# Altium schematic symbol library Amplifier_Operational.SchLib: 354 symbols (part 2 of 4)
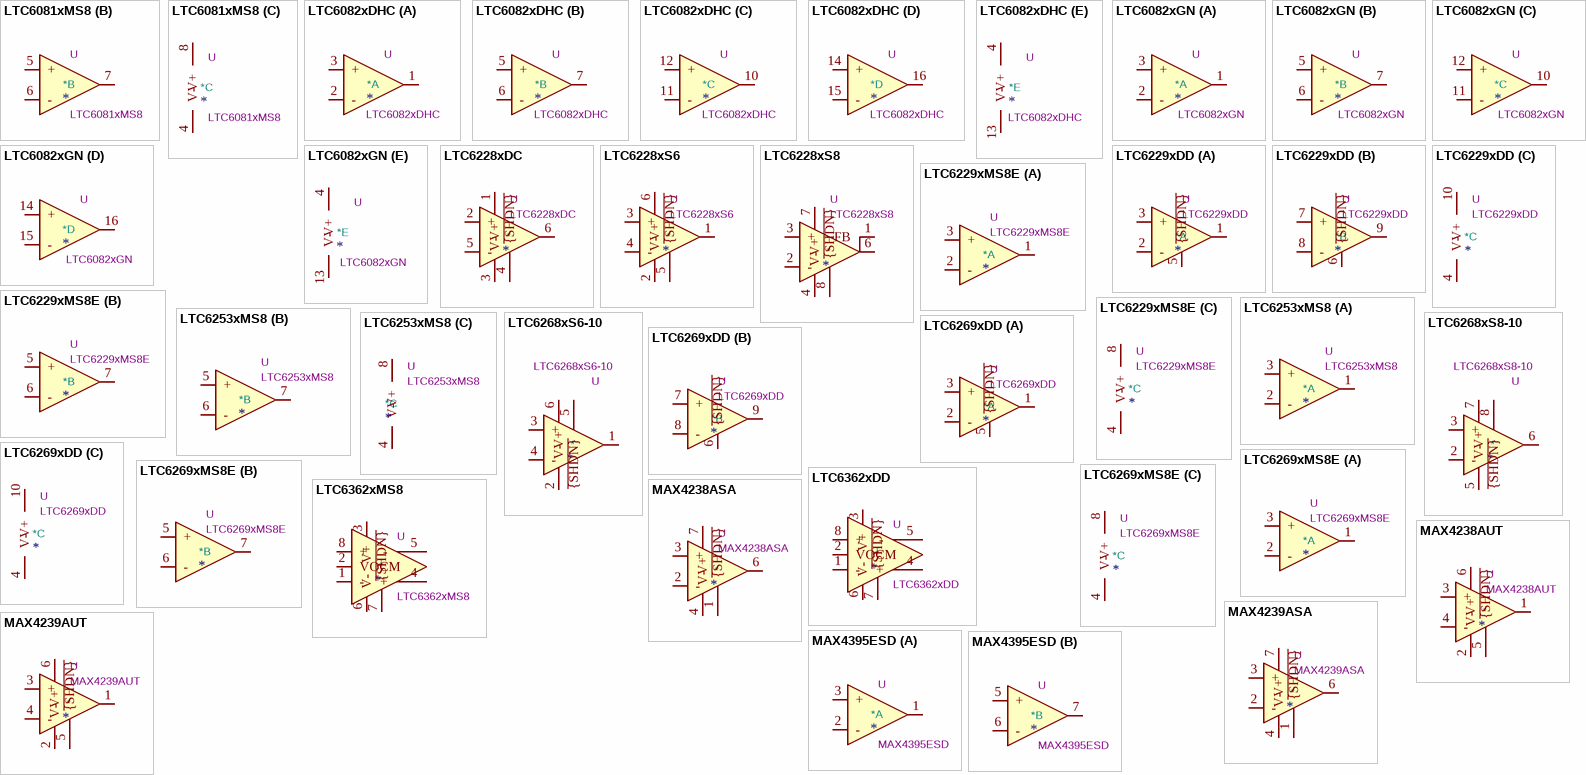
[diagram p20: symbols LTC6081xMS8 to MAX4395ESD]

## LTC6228xDC
designator *  value LTC6228xDC  Reference: U
ki_keywords: single opamp; ki_description: Low Distortion Rail-to-Rail Output Op Amp with Shutdown, DFN-6; ki_fp_filters: DFN*1EP*2x2mm*P0.5mm*; Footprint: Package_DFN_QFN:DFN-6-1EP_2x2mm_P0.5mm_EP0.6x1.37mm; Datasheet: https://www.analog.com/media/en/technical-documentation/data-sheets/LTC6228-6229.pdf
pins: 1 V+, 2 +, 3 V-, 4 ~{{SHDN}}, 5 -, 6, 7 V- hidden

## LTC6228xS6
designator *  value LTC6228xS6  Reference: U
ki_keywords: single opamp; ki_description: Low Distortion Rail-to-Rail Output Op Amp with Shutdown, TSOT-23-6; ki_fp_filters: TSOT?23*; Footprint: Package_TO_SOT_SMD:TSOT-23-6; Datasheet: https://www.analog.com/media/en/technical-documentation/data-sheets/LTC6228-6229.pdf
pins: 1, 2 V-, 3 +, 4 -, 5 ~{{SHDN}}, 6 V+

## LTC6228xS8
designator *  value LTC6228xS8  Reference: U
ki_keywords: single opamp; ki_description: Low Distortion Rail-to-Rail Output Op Amp with Shutdown, SO-8; ki_fp_filters: SO*3.9x4.9mm*P1.27mm*; Footprint: Package_SO:SO-8_3.9x4.9mm_P1.27mm; Datasheet: https://www.analog.com/media/en/technical-documentation/data-sheets/LTC6228-6229.pdf
pins: 1 FB, 2 -, 3 +, 4 V-, 5 V- hidden, 6, 7 V+, 8 ~{{SHDN}}

## LTC6229xDD
designator *  value LTC6229xDD  Reference: U
ki_keywords: dual opamp; ki_description: Low Distortion Rail-to-Rail Output Op Amps with Shutdown, DFN-10; ki_fp_filters: DFN*1EP*3x3mm*P0.5mm*; Footprint: Package_DFN_QFN:DFN-10-1EP_3x3mm_P0.5mm_EP1.65x2.38mm; Datasheet: https://www.analog.com/media/en/technical-documentation/data-sheets/LTC6228-6229.pdf
part A pins: 1, 2 -, 3 +, 5 ~{{SHDN}}
part B pins: 6 ~{{SHDN}}, 7 +, 8 -, 9
part C pins: 4 V-, 10 V+, 11 V- hidden

## LTC6229xMS8E
designator *  value LTC6229xMS8E  Reference: U
ki_keywords: dual opamp; ki_description: Low Distortion Rail-to-Rail Output Op Amps with Shutdown, MSOP-8; ki_fp_filters: MSOP*1EP*3x3mm*P0.65mm*; Footprint: Package_SO:MSOP-8-1EP_3x3mm_P0.65mm_EP1.68x1.88mm; Datasheet: https://www.analog.com/media/en/technical-documentation/data-sheets/LTC6228-6229.pdf
part A pins: 1, 2 -, 3 +
part B pins: 5 +, 6 -, 7
part C pins: 4 V-, 8 V+, 9 V- hidden

## LTC6253xMS8
designator *  value LTC6253xMS8  Reference: U
ki_keywords: dual opamp low-power; ki_description: 720MHz, 3.5mA Power Efficient, Rail-to-Rail Op Amp, MSOP-8; ki_fp_filters: MSOP*3x3mm*P0.65mm*; Footprint: Package_SO:MSOP-8_3x3mm_P0.65mm; Datasheet: https://www.analog.com/media/en/technical-documentation/data-sheets/625234fc.pdf
part A pins: 1, 2 -, 3 +
part B pins: 5 +, 6 -, 7
part C pins: 4 V-, 8 V+

## LTC6268xS6-10
designator *  value LTC6268xS6-10  Reference: U
ki_keywords: single opamp transimpedance; ki_description: 500Mhz, Ultra-Low Bias Current, FET Input, Op Amp, TSOT-23; ki_fp_filters: TSOT?23*; Footprint: Package_TO_SOT_SMD:TSOT-23-6; Datasheet: https://www.analog.com/media/en/technical-documentation/data-sheets/626810f.pdf
pins: 1, 2 V-, 3 +, 4 -, 5 ~{{SHDN}}, 6 V+

## LTC6268xS8-10
designator *  value LTC6268xS8-10  Reference: U
ki_keywords: single opamp transimpedance; ki_description: 500Mhz, Ultra-Low Bias Current, FET Input, Op Amp, SOIC-8; ki_fp_filters: SO*3.9x4.9mm*P1.27mm*; Footprint: Package_SO:SO-8_3.9x4.9mm_P1.27mm; Datasheet: https://www.analog.com/media/en/technical-documentation/data-sheets/626810f.pdf
pins: 1 NC hidden, 2 -, 3 +, 4 NC hidden, 5 V-, 6, 7 V+, 8 ~{{SHDN}}

## LTC6269xDD
designator *  value LTC6269xDD  Reference: U
ki_keywords: dual opamp; ki_description: Dual 500MHz Ultra-Low Bias  Current FET Input Op Amps with Shutdown, DFN-10; ki_fp_filters: DFN*1EP*3x3mm*P0.5mm*; Footprint: Package_DFN_QFN:DFN-8-1EP_3x3mm_P0.5mm_EP1.65x2.38mm; Datasheet: https://www.analog.com/media/en/technical-documentation/data-sheets/62689f.pdf
part A pins: 1, 2 -, 3 +, 5 ~{{SHDN}}
part B pins: 6 ~{{SHDN}}, 7 +, 8 -, 9
part C pins: 4 V-, 10 V+, 11 V- hidden

## LTC6269xMS8E
designator *  value LTC6269xMS8E  Reference: U
ki_keywords: dual opamp; ki_description: Dual 500MHz Ultra-Low Bias  Current FET Input Op Amps, MSOP-8; ki_fp_filters: MSOP*1EP*3x3mm*P0.65mm*; Footprint: Package_SO:MSOP-8-1EP_3x3mm_P0.65mm_EP1.68x1.88mm; Datasheet: https://www.analog.com/media/en/technical-documentation/data-sheets/62689f.pdf
part A pins: 1, 2 -, 3 +
part B pins: 5 +, 6 -, 7
part C pins: 4 V-, 8 V+, 9 V- hidden

## LTC6362xDD
designator *  value LTC6362xDD  Reference: U
ki_keywords: single differential opamp; ki_description: Precision, Low Power, Rail-to-Rail Input/Output, Differential Op Amp/SAR ADC Driver, DFN-8; ki_fp_filters: DFN*1EP*3x3mm*P0.5mm*; Footprint: Package_DFN_QFN:DFN-8-1EP_3x3mm_P0.5mm_EP1.66x2.38mm; Datasheet: https://www.analog.com/media/en/technical-documentation/data-sheets/6362fa.pdf
pins: 1 -, 2 VOCM, 3 V+, 4 +, 5 -, 6 V-, 7 ~{{SHDN}}, 8 +, 9 V- hidden

## LTC6362xMS8
designator *  value LTC6362xMS8  Reference: U
ki_keywords: single differential opamp; ki_description: Precision, Low Power, Rail-to-Rail Input/Output, Differential Op Amp/SAR ADC Driver, DFN-8; ki_fp_filters: MSOP*3x3mm*P0.65mm*; Footprint: Package_SO:MSOP-8_3x3mm_P0.65mm; Datasheet: https://www.analog.com/media/en/technical-documentation/data-sheets/6362fa.pdf
pins: 1 -, 2 VOCM, 3 V+, 4 +, 5 -, 6 V-, 7 ~{{SHDN}}, 8 +

## MAX4238ASA
designator *  value MAX4238ASA  Reference: U
ki_keywords: single opamp; ki_description: Ultra-Low Offset/Drift, Low-Noise, Precision Amplifiers, SOIC-8; ki_fp_filters: SOIC*3.9x4.9mm*P1.27mm*; Footprint: Package_SO:SOIC-8_3.9x4.9mm_P1.27mm; Datasheet: http://datasheets.maximintegrated.com/en/ds/MAX4238-MAX4239.pdf
pins: 1 ~{{SHDN}}, 2 -, 3 +, 4 V-, 5 NC hidden, 6, 7 V+, 8 NC hidden

## MAX4238AUT
designator *  value MAX4238AUT  Reference: U
ki_keywords: single opamp; ki_description: Ultra-Low Offset/Drift, Low-Noise, Precision Amplifiers, SOT-23-6; ki_fp_filters: SOT?23*; Footprint: Package_TO_SOT_SMD:SOT-23-6; Datasheet: http://datasheets.maximintegrated.com/en/ds/MAX4238-MAX4239.pdf
pins: 1, 2 V-, 3 +, 4 -, 5 ~{{SHDN}}, 6 V+

## MAX4239ASA
designator *  value MAX4239ASA  Reference: U
ki_keywords: single opamp; ki_description: Ultra-Low Offset/Drift, Low-Noise, Precision Amplifiers, SOIC-8; ki_fp_filters: SOIC*3.9x4.9mm*P1.27mm*; Footprint: Package_SO:SOIC-8_3.9x4.9mm_P1.27mm; Datasheet: http://datasheets.maximintegrated.com/en/ds/MAX4238-MAX4239.pdf
pins: 1 ~{{SHDN}}, 2 -, 3 +, 4 V-, 5 NC hidden, 6, 7 V+, 8 NC hidden

## MAX4239AUT
designator *  value MAX4239AUT  Reference: U
ki_keywords: single opamp; ki_description: Ultra-Low Offset/Drift, Low-Noise, Precision Amplifiers, SOT-23-6; ki_fp_filters: SOT?23*; Footprint: Package_TO_SOT_SMD:SOT-23-6; Datasheet: http://datasheets.maximintegrated.com/en/ds/MAX4238-MAX4239.pdf
pins: 1, 2 V-, 3 +, 4 -, 5 ~{{SHDN}}, 6 V+

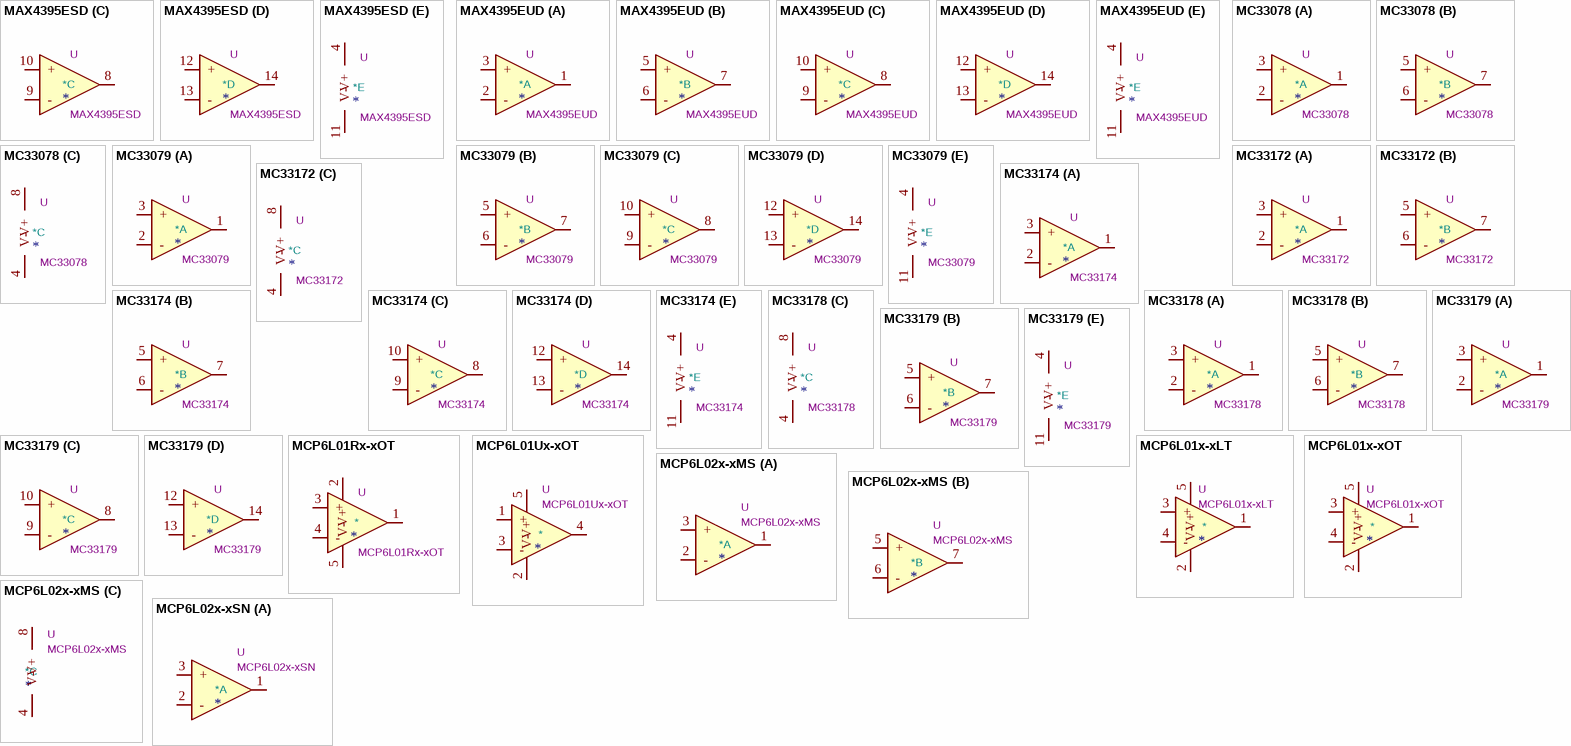
[diagram p7: symbols MAX4395ESD to MCP6L02x-xSN]

## MAX4395ESD
designator *  value MAX4395ESD  Reference: U
ki_keywords: quad opamp; ki_description: Ultra-Small, Low-Cost, 85MHz Quad Op Amp with Rail-to-Rail Outputs; ki_fp_filters: SO*3.9x8.65mm*P1.27mm*; Footprint: Package_SO:SO-14_3.9x8.65mm_P1.27mm; Datasheet: https://datasheets.maximintegrated.com/en/ds/MAX4389-MAX4396.pdf
part A pins: 1, 2 -, 3 +
part B pins: 5 +, 6 -, 7
part C pins: 8, 9 -, 10 +
part D pins: 12 +, 13 -, 14
part E pins: 4 V+, 11 V-

## MAX4395EUD
designator *  value MAX4395EUD  Reference: U
ki_keywords: quad opamp; ki_description: Ultra-Small, Low-Cost, 85MHz Quad Op Amp with Rail-to-Rail Outputs; ki_fp_filters: TSSOP*4.4x5mm*P0.65mm*; Footprint: Package_SO:TSSOP-14_4.4x5mm_P0.65mm; Datasheet: https://datasheets.maximintegrated.com/en/ds/MAX4389-MAX4396.pdf
part A pins: 1, 2 -, 3 +
part B pins: 5 +, 6 -, 7
part C pins: 8, 9 -, 10 +
part D pins: 12 +, 13 -, 14
part E pins: 4 V+, 11 V-

## MC33078
designator *  value MC33078  Reference: U
ki_keywords: dual opamp; ki_description: Low Noise, Dual Operational Amplifiers, DIP-8/SOIC-8/SSOP-8; ki_fp_filters: SOIC*3.9x4.9mm*P1.27mm* DIP*W7.62mm* TO*99* OnSemi*Micro8* TSSOP*3x3mm*P0.65mm* TSSOP*4.4x3mm*P0.65mm* MSOP*3x3mm*P0.65mm* SSOP*3.9x4.9mm*P0.635mm* LFCSP*2x2mm*P0.5mm* *SIP* SOIC*5.3x6.2mm*P1.27mm*; Datasheet: https://www.onsemi.com/pub/Collateral/MC33078-D.PDF
part A pins: 1, 2 -, 3 +
part B pins: 5 +, 6 -, 7
part C pins: 4 V-, 8 V+

## MC33079
designator *  value MC33079  Reference: U
ki_keywords: quad opamp; ki_description: Low Noise, Quad Operational Amplifiers, DIP-14/SOIC-14; ki_fp_filters: SOIC*3.9x8.7mm*P1.27mm* DIP*W7.62mm* TSSOP*4.4x5mm*P0.65mm* SSOP*5.3x6.2mm*P0.65mm* MSOP*3x3mm*P0.5mm*; Datasheet: https://www.onsemi.com/pub/Collateral/MC33078-D.PDF
part A pins: 1, 2 -, 3 +
part B pins: 5 +, 6 -, 7
part C pins: 8, 9 -, 10 +
part D pins: 12 +, 13 -, 14
part E pins: 4 V+, 11 V-

## MC33172
designator *  value MC33172  Reference: U
ki_keywords: dual opamp; ki_description: Dual Single Supply 3.0V to 44V, Low Power Operational Amplifiers, DIP-8/SOIC-8; ki_fp_filters: SOIC*3.9x4.9mm*P1.27mm* DIP*W7.62mm* TO*99* OnSemi*Micro8* TSSOP*3x3mm*P0.65mm* TSSOP*4.4x3mm*P0.65mm* MSOP*3x3mm*P0.65mm* SSOP*3.9x4.9mm*P0.635mm* LFCSP*2x2mm*P0.5mm* *SIP* SOIC*5.3x6.2mm*P1.27mm*; Datasheet: http://www.onsemi.com/pub/Collateral/MC33171-D.PDF
part A pins: 1, 2 -, 3 +
part B pins: 5 +, 6 -, 7
part C pins: 4 V-, 8 V+

## MC33174
designator *  value MC33174  Reference: U
ki_keywords: quad opamp; ki_description: Quad Single Supply 3.0V to 44V, Low Power Operational Amplifiers, DIP-14/SOIC-14/TSSOP-14; ki_fp_filters: SOIC*3.9x8.7mm*P1.27mm* DIP*W7.62mm* TSSOP*4.4x5mm*P0.65mm* SSOP*5.3x6.2mm*P0.65mm* MSOP*3x3mm*P0.5mm*; Datasheet: http://www.onsemi.com/pub/Collateral/MC33171-D.PDF
part A pins: 1, 2 -, 3 +
part B pins: 5 +, 6 -, 7
part C pins: 8, 9 -, 10 +
part D pins: 12 +, 13 -, 14
part E pins: 4 V+, 11 V-

## MC33178
designator *  value MC33178  Reference: U
ki_keywords: dual opamp; ki_description: Dual Low Power, Low Noise Operational Amplifiers, DIP-8/SOIC-8/SSOP-8; ki_fp_filters: SOIC*3.9x4.9mm*P1.27mm* DIP*W7.62mm* TO*99* OnSemi*Micro8* TSSOP*3x3mm*P0.65mm* TSSOP*4.4x3mm*P0.65mm* MSOP*3x3mm*P0.65mm* SSOP*3.9x4.9mm*P0.635mm* LFCSP*2x2mm*P0.5mm* *SIP* SOIC*5.3x6.2mm*P1.27mm*; Datasheet: https://www.onsemi.com/pub/Collateral/MC33178-D.PDF
part A pins: 1, 2 -, 3 +
part B pins: 5 +, 6 -, 7
part C pins: 4 V-, 8 V+

## MC33179
designator *  value MC33179  Reference: U
ki_keywords: quad opamp; ki_description: Quad Low Power, Low Noise Operational Amplifiers, DIP-14/SOIC-14/SSOP-14; ki_fp_filters: SOIC*3.9x8.7mm*P1.27mm* DIP*W7.62mm* TSSOP*4.4x5mm*P0.65mm* SSOP*5.3x6.2mm*P0.65mm* MSOP*3x3mm*P0.5mm*; Datasheet: https://www.onsemi.com/pub/Collateral/MC33178-D.PDF
part A pins: 1, 2 -, 3 +
part B pins: 5 +, 6 -, 7
part C pins: 8, 9 -, 10 +
part D pins: 12 +, 13 -, 14
part E pins: 4 V+, 11 V-

## MCP6L01Rx-xOT
designator *  value MCP6L01Rx-xOT  Reference: U
ki_keywords: opamp vfa r2r rtr; ki_description: Single, 1 MHz, 85µA, Rail-to-Rail input and output, SOT-23-5; ki_fp_filters: SOT?23*; Footprint: Package_TO_SOT_SMD:SOT-23-5; Datasheet: http://ww1.microchip.com/downloads/en/devicedoc/22140b.pdf
pins: 1, 2 V+, 3 +, 4 -, 5 V-

## MCP6L01Ux-xOT
designator *  value MCP6L01Ux-xOT  Reference: U
ki_keywords: opamp vfa r2r rtr; ki_description: Single, 1 MHz, 85µA, Rail-to-Rail input and output, SOT-23-5; ki_fp_filters: SOT?23*; Footprint: Package_TO_SOT_SMD:SOT-23-5; Datasheet: http://ww1.microchip.com/downloads/en/devicedoc/22140b.pdf
pins: 1 +, 2 V-, 3 -, 4, 5 V+

## MCP6L01x-xLT
designator *  value MCP6L01x-xLT  Reference: U
ki_keywords: opamp vfa r2r rtr; ki_description: Single, 1 MHz, Rail-to-Rail input and output, SC-70-5; ki_fp_filters: *SC?70*; Footprint: Package_TO_SOT_SMD:SOT-353_SC-70-5; Datasheet: http://ww1.microchip.com/downloads/en/devicedoc/22140b.pdf
pins: 1, 2 V-, 3 +, 4 -, 5 V+

## MCP6L01x-xOT
designator *  value MCP6L01x-xOT  Reference: U
ki_keywords: opamp vfa rtr r2r; ki_description: Single, 1 MHz, 85µA, Rail-to-Rail input and output, SOT-23-5; ki_fp_filters: SOT?23*; Footprint: Package_TO_SOT_SMD:SOT-23-5; Datasheet: http://ww1.microchip.com/downloads/en/devicedoc/22140b.pdf
pins: 1, 2 V-, 3 +, 4 -, 5 V+

## MCP6L02x-xMS
designator *  value MCP6L02x-xMS  Reference: U
ki_keywords: opamp vfa r2r rtr; ki_description: Dual, 1 MHz, 85µA, Rail-to-Rail input and output, MSOP-8; ki_fp_filters: MSOP*3x3mm*P0.65mm*; Footprint: Package_SO:MSOP-8_3x3mm_P0.65mm; Datasheet: http://ww1.microchip.com/downloads/en/devicedoc/22140b.pdf
part A pins: 1, 2 -, 3 +
part B pins: 5 +, 6 -, 7
part C pins: 4 V-, 8 V+

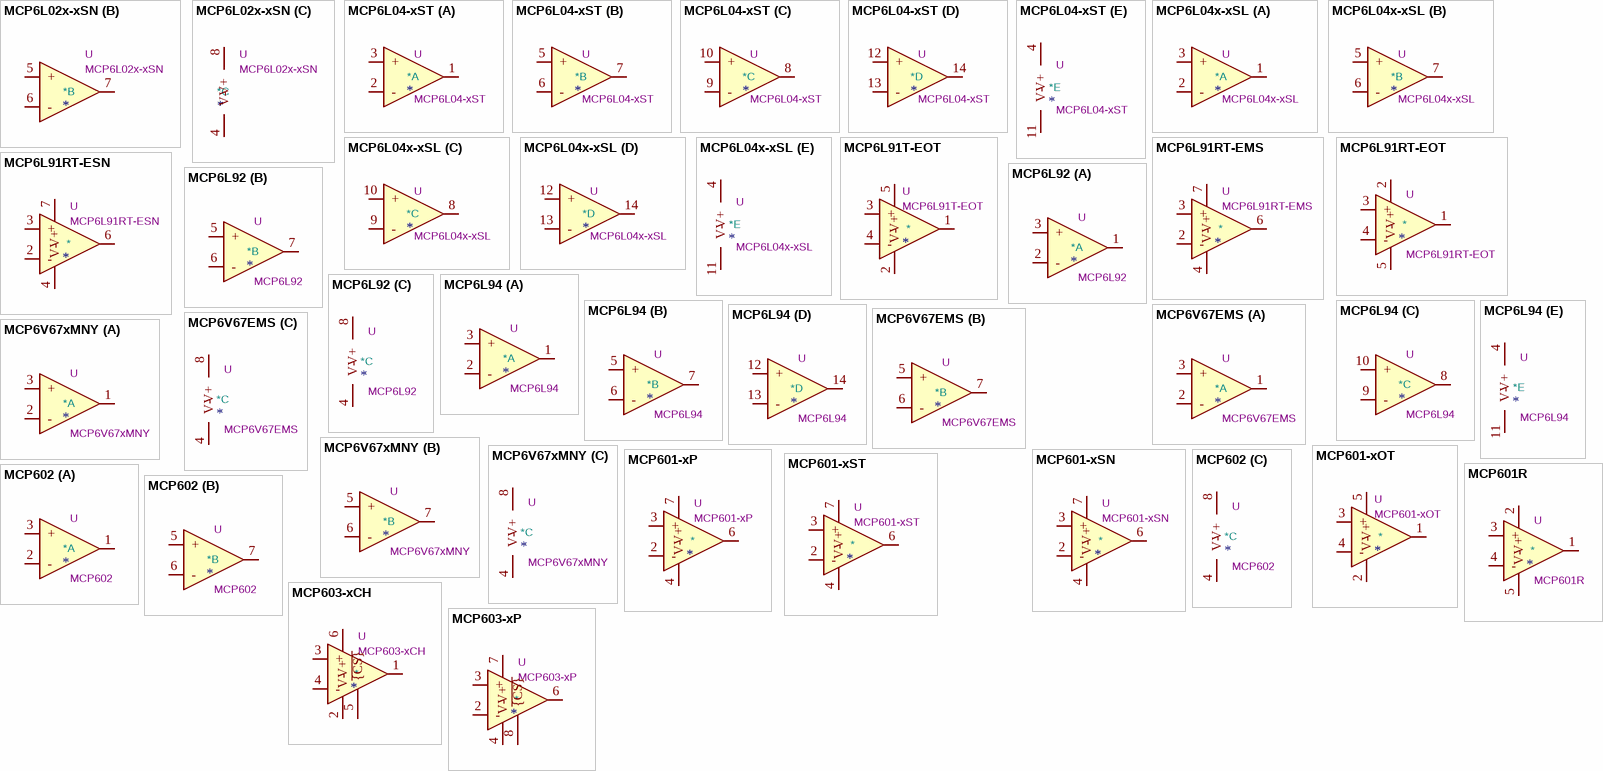
[diagram p8: symbols MCP6L02x-xSN to MCP603-xP]

## MCP6L02x-xSN
designator *  value MCP6L02x-xSN  Reference: U
ki_keywords: opamp vfa r2r rtr; ki_description: Dual, 1 MHz, 85µA, Rail-to-Rail input and output SOIC-8; ki_fp_filters: SOIC*3.9x4.9mm*P1.27mm*; Footprint: Package_SO:SOIC-8_3.9x4.9mm_P1.27mm; Datasheet: http://ww1.microchip.com/downloads/en/devicedoc/22140b.pdf
part A pins: 1, 2 -, 3 +
part B pins: 5 +, 6 -, 7
part C pins: 4 V-, 8 V+

## MCP6L04-xST
designator *  value MCP6L04-xST  Reference: U
ki_keywords: opamp vfa r2r rtr; ki_description: Quad, 1 MHz, 85µA, Rail-to-Rail input and output, TSSOP-14; ki_fp_filters: TSSOP*4.4x5mm*P0.65mm*; Footprint: Package_SO:TSSOP-14_4.4x5mm_P0.65mm; Datasheet: http://ww1.microchip.com/downloads/en/devicedoc/22140b.pdf
part A pins: 1, 2 -, 3 +
part B pins: 5 +, 6 -, 7
part C pins: 8, 9 -, 10 +
part D pins: 12 +, 13 -, 14
part E pins: 4 V+, 11 V-

## MCP6L04x-xSL
designator *  value MCP6L04x-xSL  Reference: U
ki_keywords: opamp vfa r2r rtr; ki_description: Quad, 1 MHz, 85µA, Rail-to-Rail input and output, SOIC-14; ki_fp_filters: SOIC*3.9x8.7mm*P1.27mm*; Footprint: Package_SO:SOIC-14_3.9x8.7mm_P1.27mm; Datasheet: http://ww1.microchip.com/downloads/en/devicedoc/22140b.pdf
part A pins: 1, 2 -, 3 +
part B pins: 5 +, 6 -, 7
part C pins: 8, 9 -, 10 +
part D pins: 12 +, 13 -, 14
part E pins: 4 V+, 11 V-

## MCP6L91RT-EMS
designator *  value MCP6L91RT-EMS  Reference: U
ki_keywords: single opamp; ki_description: 10 MHz, 850 µA Op Amps, MSOP-8; ki_fp_filters: MSOP*3x3mm*P0.65mm*; Footprint: Package_SO:MSOP-8_3x3mm_P0.65mm; Datasheet: http://ww1.microchip.com/downloads/en/DeviceDoc/22141b.pdf
pins: 1 NC hidden, 2 -, 3 +, 4 V-, 5 NC hidden, 6, 7 V+, 8 NC hidden

## MCP6L91RT-EOT
designator *  value MCP6L91RT-EOT  Reference: U
ki_keywords: single opamp; ki_description: 10 MHz, 850 µA Op Amps, SOT-23-5; ki_fp_filters: SOT?23*; Footprint: Package_TO_SOT_SMD:SOT-23-5; Datasheet: http://ww1.microchip.com/downloads/en/DeviceDoc/22141b.pdf
pins: 1, 2 V+, 3 +, 4 -, 5 V-

## MCP6L91RT-ESN
designator *  value MCP6L91RT-ESN  Reference: U
ki_keywords: single opamp; ki_description: 10 MHz, 850 µA Op Amps, SOIC-8; ki_fp_filters: SOIC*3.9x4.9mm*P1.27mm*; Footprint: Package_SO:SOIC-8_3.9x4.9mm_P1.27mm; Datasheet: http://ww1.microchip.com/downloads/en/DeviceDoc/22141b.pdf
pins: 1 NC hidden, 2 -, 3 +, 4 V-, 5 NC hidden, 6, 7 V+, 8 NC hidden

## MCP6L91T-EOT
designator *  value MCP6L91T-EOT  Reference: U
ki_keywords: single opamp; ki_description: 10 MHz, 850 µA Op Amps, SOT-23-5; ki_fp_filters: SOT?23*; Footprint: Package_TO_SOT_SMD:SOT-23-5; Datasheet: http://ww1.microchip.com/downloads/en/DeviceDoc/22141b.pdf
pins: 1, 2 V-, 3 +, 4 -, 5 V+

## MCP6L92
designator *  value MCP6L92  Reference: U
ki_keywords: dual opamp; ki_description: 10 MHz, 850 µA Op Amps, SOIC-8/MSOP-8; ki_fp_filters: SOIC*3.9x4.9mm*P1.27mm* DIP*W7.62mm* TO*99* OnSemi*Micro8* TSSOP*3x3mm*P0.65mm* TSSOP*4.4x3mm*P0.65mm* MSOP*3x3mm*P0.65mm* SSOP*3.9x4.9mm*P0.635mm* LFCSP*2x2mm*P0.5mm* *SIP* SOIC*5.3x6.2mm*P1.27mm*; Datasheet: http://ww1.microchip.com/downloads/en/DeviceDoc/22141b.pdf
part A pins: 1, 2 -, 3 +
part B pins: 5 +, 6 -, 7
part C pins: 4 V-, 8 V+

## MCP6L94
designator *  value MCP6L94  Reference: U
ki_keywords: quad opamp; ki_description: 10 MHz, 850 µA Op Amps, SOIC-14/TSSOP-14; ki_fp_filters: SOIC*3.9x8.7mm*P1.27mm* DIP*W7.62mm* TSSOP*4.4x5mm*P0.65mm* SSOP*5.3x6.2mm*P0.65mm* MSOP*3x3mm*P0.5mm*; Datasheet: http://ww1.microchip.com/downloads/en/DeviceDoc/22141b.pdf
part A pins: 1, 2 -, 3 +
part B pins: 5 +, 6 -, 7
part C pins: 8, 9 -, 10 +
part D pins: 12 +, 13 -, 14
part E pins: 4 V+, 11 V-

## MCP6V67EMS
designator *  value MCP6V67EMS  Reference: U
ki_keywords: dual opamp zero drift; ki_description: Dual Operational Amplifiers, Zero-Drift, 80 kHz Bandwidth, 1.8V to 5.5V, Rail-to-Rail, MSOP-8; ki_fp_filters: SOIC*3.9x4.9mm*P1.27mm* DIP*W7.62mm* TO*99* OnSemi*Micro8* TSSOP*3x3mm*P0.65mm* TSSOP*4.4x3mm*P0.65mm* MSOP*3x3mm*P0.65mm* SSOP*3.9x4.9mm*P0.635mm* LFCSP*2x2mm*P0.5mm* *SIP* SOIC*5.3x6.2mm*P1.27mm*; Datasheet: http://ww1.microchip.com/downloads/en/DeviceDoc/MCP6V66-Family-Data-Sheet-DS20006266A.pdf
part A pins: 1, 2 -, 3 +
part B pins: 5 +, 6 -, 7
part C pins: 4 V-, 8 V+

## MCP6V67xMNY
designator *  value MCP6V67xMNY  Reference: U
ki_keywords: dual opamp zero drift; ki_description: Dual Operational Amplifiers, Zero-Drift, 80 kHz Bandwidth, 1.8V to 5.5V, Rail-to-Rail, TDFN-8; ki_fp_filters: TDFN*1EP*3x2mm*P0.5mm*; Footprint: Package_DFN_QFN:TDFN-8-1EP_3x2mm_P0.5mm_EP1.3x1.4mm; Datasheet: http://ww1.microchip.com/downloads/en/DeviceDoc/MCP6V66-Family-Data-Sheet-DS20006266A.pdf
part A pins: 1, 2 -, 3 +
part B pins: 5 +, 6 -, 7
part C pins: 4 V-, 8 V+, 9 V- hidden

## MCP601-xOT
designator *  value MCP601-xOT  Reference: U
ki_keywords: single opamp; ki_description: Single 2.7V to 6.0V Single Supply CMOS Op Amps, SOT-23-5; ki_fp_filters: SOT?23*; Footprint: Package_TO_SOT_SMD:SOT-23-5; Datasheet: http://ww1.microchip.com/downloads/en/DeviceDoc/21314g.pdf
pins: 1, 2 V-, 3 +, 4 -, 5 V+

## MCP601-xP
designator *  value MCP601-xP  Reference: U
ki_keywords: single opamp; ki_description: Single 2.7V to 6.0V Single Supply CMOS Op Amps, DIP-8; ki_fp_filters: DIP*W7.62mm*; Footprint: Package_DIP:DIP-8_W7.62mm; Datasheet: http://ww1.microchip.com/downloads/en/DeviceDoc/21314g.pdf
pins: 1 NC hidden, 2 -, 3 +, 4 V-, 5 NC hidden, 6, 7 V+, 8 NC hidden

## MCP601-xSN
designator *  value MCP601-xSN  Reference: U
ki_keywords: single opamp; ki_description: Single 2.7V to 6.0V Single Supply CMOS Op Amps, SOIC-8; ki_fp_filters: SOIC*3.9x4.9mm*P1.27mm*; Footprint: Package_SO:SOIC-8_3.9x4.9mm_P1.27mm; Datasheet: http://ww1.microchip.com/downloads/en/DeviceDoc/21314g.pdf
pins: 1 NC hidden, 2 -, 3 +, 4 V-, 5 NC hidden, 6, 7 V+, 8 NC hidden

## MCP601-xST
designator *  value MCP601-xST  Reference: U
ki_keywords: single opamp; ki_description: Single 2.7V to 6.0V Single Supply CMOS Op Amps, TSSOP-8; ki_fp_filters: TSSOP*4.4x3mm*P0.65mm*; Footprint: Package_SO:TSSOP-8_4.4x3mm_P0.65mm; Datasheet: http://ww1.microchip.com/downloads/en/DeviceDoc/21314g.pdf
pins: 1 NC hidden, 2 -, 3 +, 4 V-, 5 NC hidden, 6, 7 V+, 8 NC hidden

## MCP601R
designator *  value MCP601R  Reference: U
ki_keywords: single opamp; ki_description: Single 2.7V to 6.0V Single Supply CMOS Op Amps, SOT-23-5; ki_fp_filters: SOT?23*; Footprint: Package_TO_SOT_SMD:SOT-23-5; Datasheet: http://ww1.microchip.com/downloads/en/DeviceDoc/21314g.pdf
pins: 1, 2 V+, 3 +, 4 -, 5 V-

## MCP602
designator *  value MCP602  Reference: U
ki_keywords: dual opamp; ki_description: Dual 2.7V to 6.0V Single Supply CMOS Op Amps, DIP-8/SOIC-8/TSSOP-8; ki_fp_filters: SOIC*3.9x4.9mm*P1.27mm* DIP*W7.62mm* TO*99* OnSemi*Micro8* TSSOP*3x3mm*P0.65mm* TSSOP*4.4x3mm*P0.65mm* MSOP*3x3mm*P0.65mm* SSOP*3.9x4.9mm*P0.635mm* LFCSP*2x2mm*P0.5mm* *SIP* SOIC*5.3x6.2mm*P1.27mm*; Datasheet: http://ww1.microchip.com/downloads/en/DeviceDoc/21314g.pdf
part A pins: 1, 2 -, 3 +
part B pins: 5 +, 6 -, 7
part C pins: 4 V-, 8 V+

## MCP603-xCH
designator *  value MCP603-xCH  Reference: U
ki_keywords: single opamp; ki_description: Single 2.7V to 6.0V Single Supply CMOS Op Amps, with Chip Select, SOT-23-6; ki_fp_filters: SOT?23*; Footprint: Package_TO_SOT_SMD:SOT-23-6; Datasheet: http://ww1.microchip.com/downloads/en/DeviceDoc/21314g.pdf
pins: 1, 2 V-, 3 +, 4 -, 5 ~{{CS}}, 6 V+

## MCP603-xP
designator *  value MCP603-xP  Reference: U
ki_keywords: single opamp; ki_description: Single 2.7V to 6.0V Single Supply CMOS Op Amps, with Chip Select, DIP-8; ki_fp_filters: DIP*W7.62mm* SOIC*3.9x4.9mm*P1.27mm* TSSOP*4.4x3mm*P0.65mm*; Datasheet: http://ww1.microchip.com/downloads/en/DeviceDoc/21314g.pdf
pins: 1 NC hidden, 2 -, 3 +, 4 V-, 5 NC hidden, 6, 7 V+, 8 ~{{CS}}

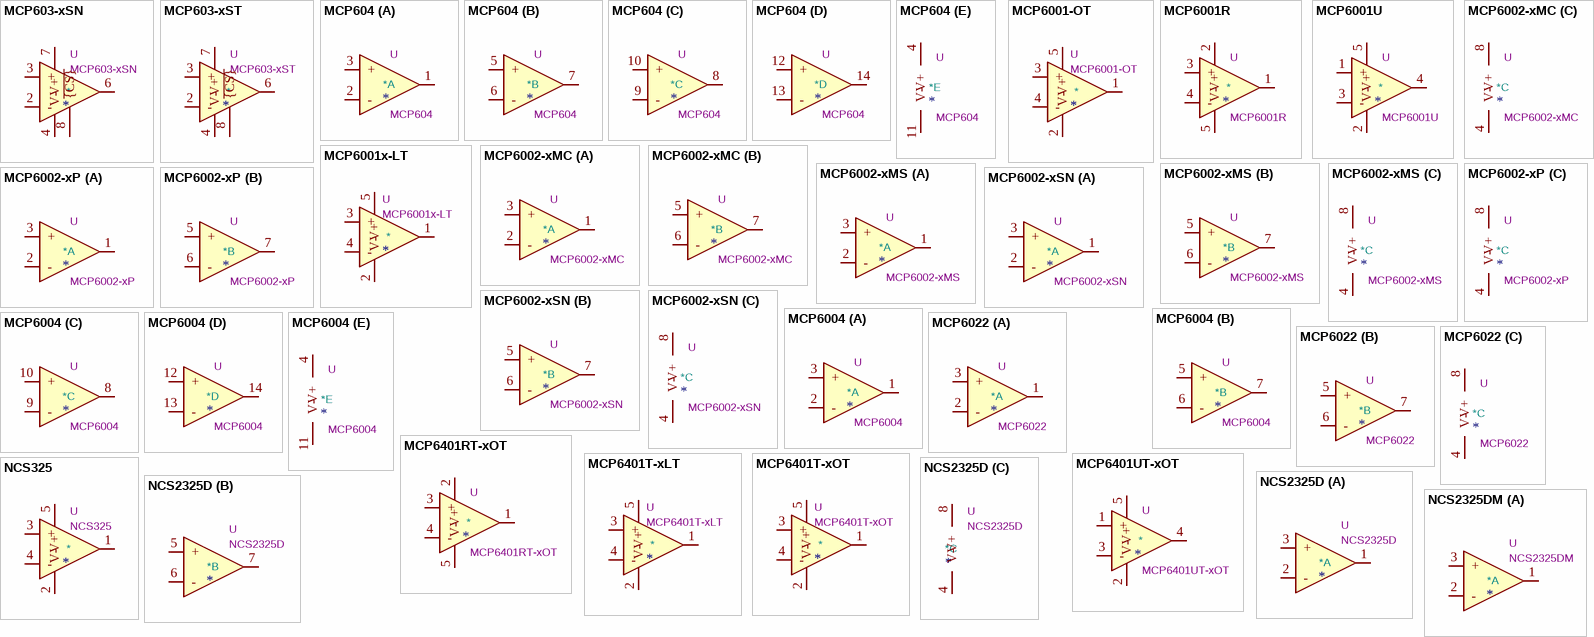
[diagram p9: symbols MCP603-xSN to NCS2325DM]

## MCP603-xSN
designator *  value MCP603-xSN  Reference: U
ki_keywords: single opamp; ki_description: Single 2.7V to 6.0V Single Supply CMOS Op Amps, with Chip Select, SOIC-8; ki_fp_filters: DIP*W7.62mm* SOIC*3.9x4.9mm*P1.27mm* TSSOP*4.4x3mm*P0.65mm*; Datasheet: http://ww1.microchip.com/downloads/en/DeviceDoc/21314g.pdf
pins: 1 NC hidden, 2 -, 3 +, 4 V-, 5 NC hidden, 6, 7 V+, 8 ~{{CS}}

## MCP603-xST
designator *  value MCP603-xST  Reference: U
ki_keywords: single opamp; ki_description: Single 2.7V to 6.0V Single Supply CMOS Op Amps, with Chip Select, TSSOP-8; ki_fp_filters: DIP*W7.62mm* SOIC*3.9x4.9mm*P1.27mm* TSSOP*4.4x3mm*P0.65mm*; Datasheet: http://ww1.microchip.com/downloads/en/DeviceDoc/21314g.pdf
pins: 1 NC hidden, 2 -, 3 +, 4 V-, 5 NC hidden, 6, 7 V+, 8 ~{{CS}}

## MCP604
designator *  value MCP604  Reference: U
ki_keywords: quad opamp; ki_description: Quad 2.7V to 6.0V Single Supply CMOS Op Amps, DIP-14/SOIC-14/TSSOP-14; ki_fp_filters: SOIC*3.9x8.7mm*P1.27mm* DIP*W7.62mm* TSSOP*4.4x5mm*P0.65mm* SSOP*5.3x6.2mm*P0.65mm* MSOP*3x3mm*P0.5mm*; Datasheet: http://ww1.microchip.com/downloads/en/DeviceDoc/21314g.pdf
part A pins: 1, 2 -, 3 +
part B pins: 5 +, 6 -, 7
part C pins: 8, 9 -, 10 +
part D pins: 12 +, 13 -, 14
part E pins: 4 V+, 11 V-

## MCP6001-OT
designator *  value MCP6001-OT  Reference: U
ki_keywords: single opamp; ki_description: 1MHz, Low-Power Op Amp, SOT-23-5; ki_fp_filters: SOT?23*; Footprint: Package_TO_SOT_SMD:SOT-23-5; Datasheet: http://ww1.microchip.com/downloads/en/DeviceDoc/21733j.pdf
pins: 1, 2 V-, 3 +, 4 -, 5 V+

## MCP6001R
designator *  value MCP6001R  Reference: U
ki_keywords: single opamp; ki_description: 1MHz, Low-Power Op Amp, SOT-23-5; ki_fp_filters: SOT?23*; Footprint: Package_TO_SOT_SMD:SOT-23-5; Datasheet: http://ww1.microchip.com/downloads/en/DeviceDoc/21733j.pdf
pins: 1, 2 V+, 3 +, 4 -, 5 V-

## MCP6001U
designator *  value MCP6001U  Reference: U
ki_keywords: single opamp; ki_description: 1MHz, Low-Power Op Amp, SOT-23-5; ki_fp_filters: SOT?23* *SC*70*; Datasheet: http://ww1.microchip.com/downloads/en/DeviceDoc/21733j.pdf
pins: 1 +, 2 V-, 3 -, 4, 5 V+

## MCP6001x-LT
designator *  value MCP6001x-LT  Reference: U
ki_keywords: single opamp; ki_description: 1 MHz, Low-Power Op Amp, SC-70-5; ki_fp_filters: *SC?70*; Footprint: Package_TO_SOT_SMD:SOT-353_SC-70-5; Datasheet: http://ww1.microchip.com/downloads/en/DeviceDoc/21733j.pdf
pins: 1, 2 V-, 3 +, 4 -, 5 V+

## MCP6002-xMC
designator *  value MCP6002-xMC  Reference: U
ki_keywords: dual opamp; ki_description: 1MHz, Low-Power Op Amp, DFN-8; ki_fp_filters: DFN*1EP*3x2mm*P0.5mm*; Footprint: Package_DFN_QFN:DFN-8-1EP_3x2mm_P0.5mm_EP1.75x1.45mm; Datasheet: http://ww1.microchip.com/downloads/en/DeviceDoc/21733j.pdf
part A pins: 1, 2 -, 3 +
part B pins: 5 +, 6 -, 7
part C pins: 4 V-, 8 V+, 9 V- hidden

## MCP6002-xMS
designator *  value MCP6002-xMS  Reference: U
ki_keywords: dual opamp; ki_description: 1MHz, Low-Power Op Amp, MSOP-8; ki_fp_filters: SOIC*3.9x4.9mm*P1.27mm* DIP*W7.62mm* TO*99* OnSemi*Micro8* TSSOP*3x3mm*P0.65mm* TSSOP*4.4x3mm*P0.65mm* MSOP*3x3mm*P0.65mm* SSOP*3.9x4.9mm*P0.635mm* LFCSP*2x2mm*P0.5mm* *SIP* SOIC*5.3x6.2mm*P1.27mm*; Datasheet: http://ww1.microchip.com/downloads/en/DeviceDoc/21733j.pdf
part A pins: 1, 2 -, 3 +
part B pins: 5 +, 6 -, 7
part C pins: 4 V-, 8 V+

## MCP6002-xP
designator *  value MCP6002-xP  Reference: U
ki_keywords: dual opamp; ki_description: 1MHz, Low-Power Op Amp, DIP-8; ki_fp_filters: SOIC*3.9x4.9mm*P1.27mm* DIP*W7.62mm* TO*99* OnSemi*Micro8* TSSOP*3x3mm*P0.65mm* TSSOP*4.4x3mm*P0.65mm* MSOP*3x3mm*P0.65mm* SSOP*3.9x4.9mm*P0.635mm* LFCSP*2x2mm*P0.5mm* *SIP* SOIC*5.3x6.2mm*P1.27mm*; Datasheet: http://ww1.microchip.com/downloads/en/DeviceDoc/21733j.pdf
part A pins: 1, 2 -, 3 +
part B pins: 5 +, 6 -, 7
part C pins: 4 V-, 8 V+

## MCP6002-xSN
designator *  value MCP6002-xSN  Reference: U
ki_keywords: dual opamp; ki_description: 1MHz, Low-Power Op Amp, SOIC-8; ki_fp_filters: SOIC*3.9x4.9mm*P1.27mm* DIP*W7.62mm* TO*99* OnSemi*Micro8* TSSOP*3x3mm*P0.65mm* TSSOP*4.4x3mm*P0.65mm* MSOP*3x3mm*P0.65mm* SSOP*3.9x4.9mm*P0.635mm* LFCSP*2x2mm*P0.5mm* *SIP* SOIC*5.3x6.2mm*P1.27mm*; Datasheet: http://ww1.microchip.com/downloads/en/DeviceDoc/21733j.pdf
part A pins: 1, 2 -, 3 +
part B pins: 5 +, 6 -, 7
part C pins: 4 V-, 8 V+

## MCP6004
designator *  value MCP6004  Reference: U
ki_keywords: quad opamp; ki_description: 1MHz, Low-Power Op Amp, DIP-14/SOIC-14/TSSOP-14; ki_fp_filters: SOIC*3.9x8.7mm*P1.27mm* DIP*W7.62mm* TSSOP*4.4x5mm*P0.65mm* SSOP*5.3x6.2mm*P0.65mm* MSOP*3x3mm*P0.5mm*; Datasheet: http://ww1.microchip.com/downloads/en/DeviceDoc/21733j.pdf
part A pins: 1, 2 -, 3 +
part B pins: 5 +, 6 -, 7
part C pins: 8, 9 -, 10 +
part D pins: 12 +, 13 -, 14
part E pins: 4 V+, 11 V-

## MCP6022
designator *  value MCP6022  Reference: U
ki_keywords: dual opamp rail-to-rail; ki_description: Dual Operational Amplifiers, Rail-to-Rail Input/Output, DIP-8/SOIC-8/TSSOP-8; ki_fp_filters: SOIC*3.9x4.9mm*P1.27mm* DIP*W7.62mm* TO*99* OnSemi*Micro8* TSSOP*3x3mm*P0.65mm* TSSOP*4.4x3mm*P0.65mm* MSOP*3x3mm*P0.65mm* SSOP*3.9x4.9mm*P0.635mm* LFCSP*2x2mm*P0.5mm* *SIP* SOIC*5.3x6.2mm*P1.27mm*; Datasheet: http://ww1.microchip.com/downloads/en/devicedoc/20001685e.pdf
part A pins: 1, 2 -, 3 +
part B pins: 5 +, 6 -, 7
part C pins: 4 V-, 8 V+

## MCP6401RT-xOT
designator *  value MCP6401RT-xOT  Reference: U
ki_keywords: single opamp; ki_description: 1 MHz, 45 µA Op Amps, SOT-23-5; ki_fp_filters: SOT?23*; Footprint: Package_TO_SOT_SMD:SOT-23-5; Datasheet: http://ww1.microchip.com/downloads/en/devicedoc/22229d.pdf
pins: 1, 2 V+, 3 +, 4 -, 5 V-

## MCP6401T-xLT
designator *  value MCP6401T-xLT  Reference: U
ki_keywords: single opamp; ki_description: 1 MHz, 45 µA Op Amps, SC-70-5; ki_fp_filters: *SC?70*; Footprint: Package_TO_SOT_SMD:SOT-353_SC-70-5; Datasheet: http://ww1.microchip.com/downloads/en/devicedoc/22229d.pdf
pins: 1, 2 V-, 3 +, 4 -, 5 V+

## MCP6401T-xOT
designator *  value MCP6401T-xOT  Reference: U
ki_keywords: single opamp; ki_description: 1 MHz, 45 µA Op Amps, SOT-23-5; ki_fp_filters: SOT?23*; Footprint: Package_TO_SOT_SMD:SOT-23-5; Datasheet: http://ww1.microchip.com/downloads/en/devicedoc/22229d.pdf
pins: 1, 2 V-, 3 +, 4 -, 5 V+

## MCP6401UT-xOT
designator *  value MCP6401UT-xOT  Reference: U
ki_keywords: single opamp; ki_description: 1 MHz, 45 µA Op Amps, SOT-23-5; ki_fp_filters: SOT?23* *SC*70*; Datasheet: http://ww1.microchip.com/downloads/en/devicedoc/22229d.pdf
pins: 1 +, 2 V-, 3 -, 4, 5 V+

## NCS325
designator *  value NCS325  Reference: U
ki_keywords: single opamp low-power; ki_description: Single operational amplifier, 50uV Offset, 0.25uV/C, 35uA Zero-Drift, SOT-23-5; ki_fp_filters: SOT?23*; Footprint: Package_TO_SOT_SMD:SOT-23-5; Datasheet: http://www.onsemi.com/pub/Collateral/NCS325-D.PDF
pins: 1, 2 V-, 3 +, 4 -, 5 V+

## NCS2325D
designator *  value NCS2325D  Reference: U
ki_keywords: dual opamp low-power; ki_description: Dual operational amplifier, 50uV Offset, 0.25uV/C, 35uA Zero-Drift, SOIC-8; ki_fp_filters: SOIC*3.9x4.9mm*P1.27mm*; Footprint: Package_SO:SOIC-8_3.9x4.9mm_P1.27mm; Datasheet: http://www.onsemi.com/PowerSolutions/document/NCS325-D.PDF
part A pins: 1, 2 -, 3 +
part B pins: 5 +, 6 -, 7
part C pins: 4 V-, 8 V+

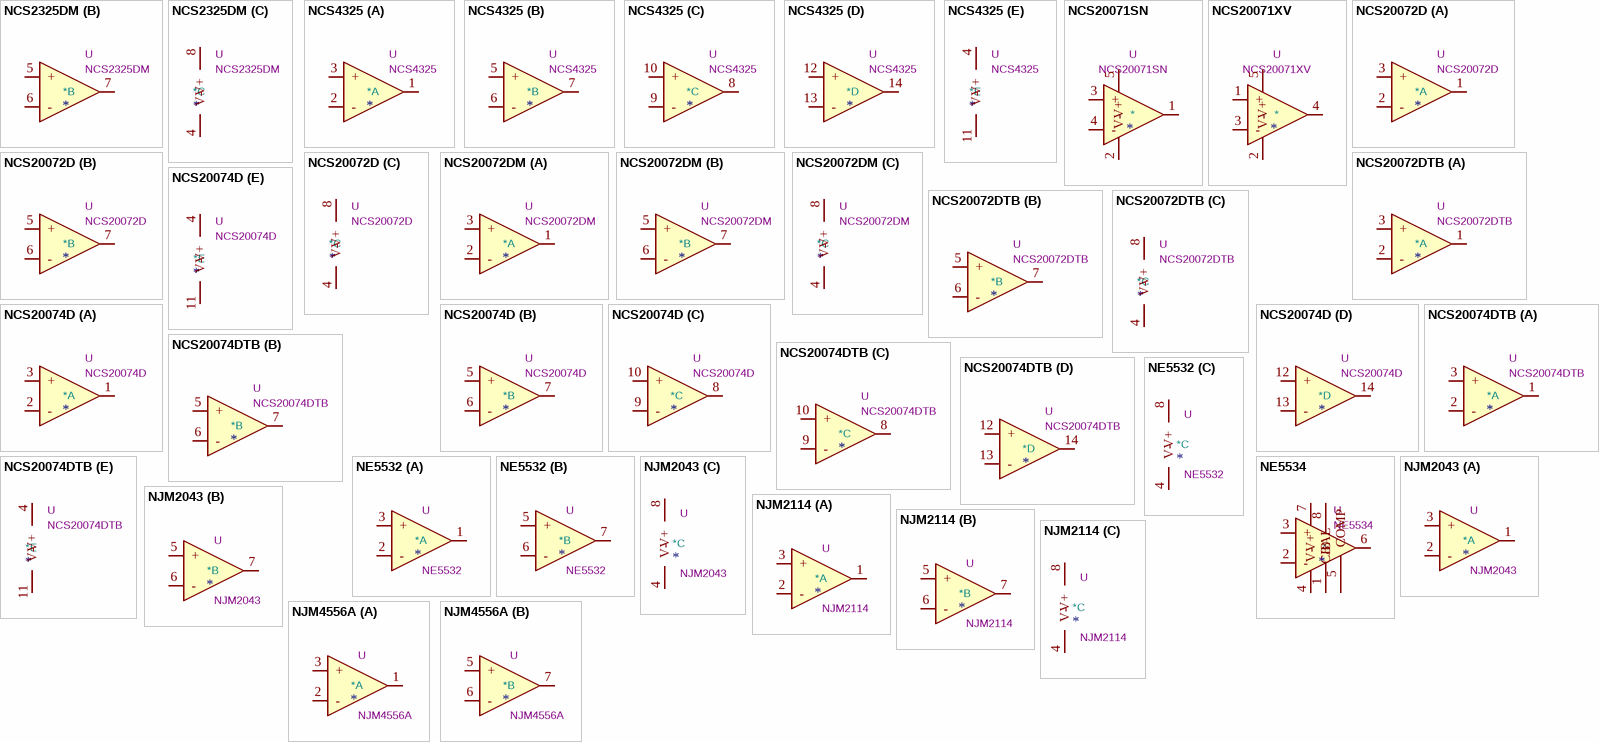
[diagram p10: symbols NCS2325DM to NJM4556A]

## NCS2325DM
designator *  value NCS2325DM  Reference: U
ki_keywords: dual opamp low-power; ki_description: Dual operational amplifier, 50uV Offset, 0.25uV/C, 35uA Zero-Drift, MSOP-8; ki_fp_filters: MSOP*3x3mm*P0.65mm*; Footprint: Package_SO:MSOP-8_3x3mm_P0.65mm; Datasheet: http://www.onsemi.com/PowerSolutions/document/NCS325-D.PDF
part A pins: 1, 2 -, 3 +
part B pins: 5 +, 6 -, 7
part C pins: 4 V-, 8 V+

## NCS4325
designator *  value NCS4325  Reference: U
ki_keywords: quad opamp low-power; ki_description: Quad operational amplifier, 50uV Offset, 0.25uV/C, 35uA Zero-Drift, SOIC-14; ki_fp_filters: SOIC*3.9x8.7mm*P1.27mm*; Footprint: Package_SO:SOIC-14_3.9x8.7mm_P1.27mm; Datasheet: http://www.onsemi.com/pub/Collateral/NCS325-D.PDF
part A pins: 1, 2 -, 3 +
part B pins: 5 +, 6 -, 7
part C pins: 8, 9 -, 10 +
part D pins: 12 +, 13 -, 14
part E pins: 4 V+, 11 V-

## NCS20071SN
designator *  value NCS20071SN  Reference: U
ki_keywords: OpAmp Rail-to-rail Output Single vfa; ki_description: Single, 2.8V/µs, Rail-to-Rail Output, TSOP-5; ki_fp_filters: TSOP*1.65x3.05mm*P0.95mm*; Footprint: Package_SO:TSOP-5_1.65x3.05mm_P0.95mm; Datasheet: https://www.onsemi.com/pub/Collateral/NCS20071-D.PDF
pins: 1, 2 V-, 3 +, 4 -, 5 V+

## NCS20071XV
designator *  value NCS20071XV  Reference: U
ki_keywords: OpAmp Rail-to-rail Output Single vfa; ki_description: Single, 2.8V/µs, Rail-to-Rail Output, SOT-553; ki_fp_filters: SOT?553*; Footprint: Package_TO_SOT_SMD:SOT-553; Datasheet: https://www.onsemi.com/pub/Collateral/NCS20071-D.PDF
pins: 1 +, 2 V-, 3 -, 4, 5 V+

## NCS20072D
designator *  value NCS20072D  Reference: U
ki_keywords: dual rail-to-rail output opamp vfa; ki_description: Dual, 2.8V/µs, Rail-to-Rail Output, SOIC-8; ki_fp_filters: SOIC*3.9x4.9mm*P1.27mm*; Footprint: Package_SO:SOIC-8_3.9x4.9mm_P1.27mm; Datasheet: https://www.onsemi.com/pub/Collateral/NCS20071-D.PDF
part A pins: 1, 2 -, 3 +
part B pins: 5 +, 6 -, 7
part C pins: 4 V-, 8 V+

## NCS20072DM
designator *  value NCS20072DM  Reference: U
ki_keywords: dual rail-to-rail output opamp vfa; ki_description: Dual, 2.8V/µs, Rail-to-Rail Output, MSOP-8; ki_fp_filters: MSOP*3x3mm*P0.65mm*; Footprint: Package_SO:MSOP-8_3x3mm_P0.65mm; Datasheet: https://www.onsemi.com/pub/Collateral/NCS20071-D.PDF
part A pins: 1, 2 -, 3 +
part B pins: 5 +, 6 -, 7
part C pins: 4 V-, 8 V+

## NCS20072DTB
designator *  value NCS20072DTB  Reference: U
ki_keywords: dual rail-to-rail output opamp vfa; ki_description: Dual, 2.8V/µs, Rail-to-Rail Output, TSSOP-8; ki_fp_filters: TSSOP*4.4x3mm*P0.65mm*; Footprint: Package_SO:TSSOP-8_4.4x3mm_P0.65mm; Datasheet: https://www.onsemi.com/pub/Collateral/NCS20071-D.PDF
part A pins: 1, 2 -, 3 +
part B pins: 5 +, 6 -, 7
part C pins: 4 V-, 8 V+

## NCS20074D
designator *  value NCS20074D  Reference: U
ki_keywords: quad rail-to-rail output opamp vfa; ki_description: Quad, 2.8V/µs, Rail-to-Rail Output, SOIC-14; ki_fp_filters: SOIC*3.9x8.7mm*P1.27mm*; Footprint: Package_SO:SOIC-14_3.9x8.7mm_P1.27mm; Datasheet: https://www.onsemi.com/pub/Collateral/NCS20071-D.PDF
part A pins: 1, 2 -, 3 +
part B pins: 5 +, 6 -, 7
part C pins: 8, 9 -, 10 +
part D pins: 12 +, 13 -, 14
part E pins: 4 V+, 11 V-

## NCS20074DTB
designator *  value NCS20074DTB  Reference: U
ki_keywords: quad rail-to-rail output opamp vfa; ki_description: Quad, 2.8V/µs, Rail-to-Rail Output, TSSOP-14; ki_fp_filters: TSSOP*4.4x5mm*P0.65mm*; Footprint: Package_SO:TSSOP-14_4.4x5mm_P0.65mm; Datasheet: https://www.onsemi.com/pub/Collateral/NCS20071-D.PDF
part A pins: 1, 2 -, 3 +
part B pins: 5 +, 6 -, 7
part C pins: 8, 9 -, 10 +
part D pins: 12 +, 13 -, 14
part E pins: 4 V+, 11 V-

## NE5532
designator *  value NE5532  Reference: U
ki_keywords: dual opamp; ki_description: Dual Low-Noise Operational Amplifiers, DIP-8/SOIC-8; ki_fp_filters: SOIC*3.9x4.9mm*P1.27mm* DIP*W7.62mm* TO*99* OnSemi*Micro8* TSSOP*3x3mm*P0.65mm* TSSOP*4.4x3mm*P0.65mm* MSOP*3x3mm*P0.65mm* SSOP*3.9x4.9mm*P0.635mm* LFCSP*2x2mm*P0.5mm* *SIP* SOIC*5.3x6.2mm*P1.27mm*; Datasheet: http://www.ti.com/lit/ds/symlink/ne5532.pdf
part A pins: 1, 2 -, 3 +
part B pins: 5 +, 6 -, 7
part C pins: 4 V-, 8 V+

## NE5534
designator *  value NE5534  Reference: U
ki_keywords: single opamp; ki_description: Single Low-Noise Operational Amplifiers, DIP-8/SOIC-8; ki_fp_filters: DIP*W7.62mm* SOIC*3.9x4.9mm*P1.27mm* TO?5*; Datasheet: http://www.ti.com/lit/ds/symlink/ne5534.pdf
pins: 1 BAL, 2 -, 3 +, 4 V-, 5 COMP, 6, 7 V+, 8 C/B

## NJM2043
designator *  value NJM2043  Reference: U
ki_keywords: dual opamp; ki_description: Dual Low Noise Pre-Amplifier, DIP-8/DMP-8/SIP-8; ki_fp_filters: SOIC*3.9x4.9mm*P1.27mm* DIP*W7.62mm* TO*99* OnSemi*Micro8* TSSOP*3x3mm*P0.65mm* TSSOP*4.4x3mm*P0.65mm* MSOP*3x3mm*P0.65mm* SSOP*3.9x4.9mm*P0.635mm* LFCSP*2x2mm*P0.5mm* *SIP* SOIC*5.3x6.2mm*P1.27mm*; Datasheet: http://www.njr.com/semicon/PDF/NJM2043_E.pdf
part A pins: 1, 2 -, 3 +
part B pins: 5 +, 6 -, 7
part C pins: 4 V-, 8 V+

## NJM2114
designator *  value NJM2114  Reference: U
ki_keywords: dual opamp; ki_description: Dual High Performance Low Noise Operational Amplifier, DIP-8/DMP-8/SIP-8; ki_fp_filters: SOIC*3.9x4.9mm*P1.27mm* DIP*W7.62mm* TO*99* OnSemi*Micro8* TSSOP*3x3mm*P0.65mm* TSSOP*4.4x3mm*P0.65mm* MSOP*3x3mm*P0.65mm* SSOP*3.9x4.9mm*P0.635mm* LFCSP*2x2mm*P0.5mm* *SIP* SOIC*5.3x6.2mm*P1.27mm*; Datasheet: http://www.njr.com/semicon/PDF/NJM2114_E.pdf
part A pins: 1, 2 -, 3 +
part B pins: 5 +, 6 -, 7
part C pins: 4 V-, 8 V+

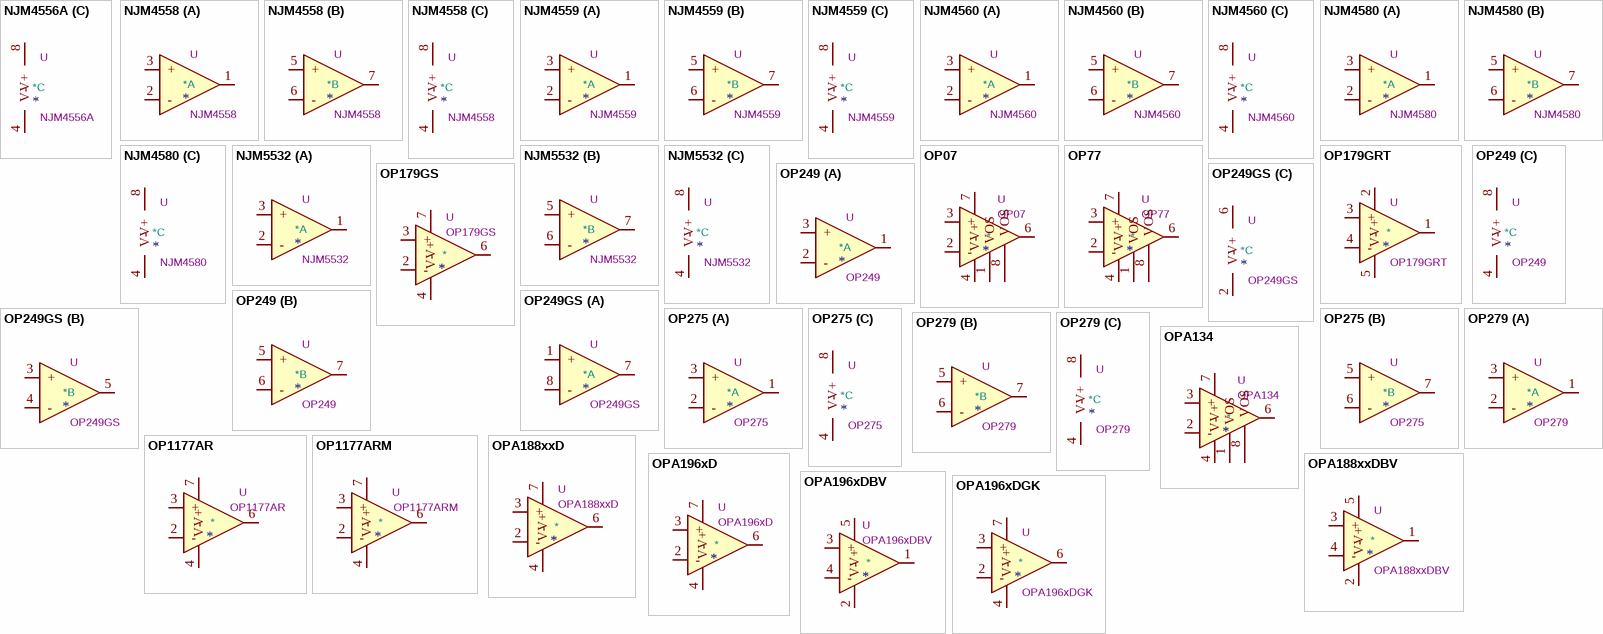
[diagram p11: symbols NJM4556A to OPA196xDGK]

## NJM4556A
designator *  value NJM4556A  Reference: U
ki_keywords: dual opamp; ki_description: Dual High Current Operational Amplifier, DIP-8/DMP-8/SIP-8/SSOP-8; ki_fp_filters: SOIC*3.9x4.9mm*P1.27mm* DIP*W7.62mm* TO*99* OnSemi*Micro8* TSSOP*3x3mm*P0.65mm* TSSOP*4.4x3mm*P0.65mm* MSOP*3x3mm*P0.65mm* SSOP*3.9x4.9mm*P0.635mm* LFCSP*2x2mm*P0.5mm* *SIP* SOIC*5.3x6.2mm*P1.27mm*; Datasheet: http://www.njr.com/semicon/PDF/NJM4556A_E.pdf
part A pins: 1, 2 -, 3 +
part B pins: 5 +, 6 -, 7
part C pins: 4 V-, 8 V+

## NJM4558
designator *  value NJM4558  Reference: U
ki_keywords: dual opamp; ki_description: Dual Operational Amplifier, DIP-8/DMP-8/SIP-8/SOP-8/SSOP-8; ki_fp_filters: SOIC*3.9x4.9mm*P1.27mm* DIP*W7.62mm* TO*99* OnSemi*Micro8* TSSOP*3x3mm*P0.65mm* TSSOP*4.4x3mm*P0.65mm* MSOP*3x3mm*P0.65mm* SSOP*3.9x4.9mm*P0.635mm* LFCSP*2x2mm*P0.5mm* *SIP* SOIC*5.3x6.2mm*P1.27mm*; Datasheet: http://www.njr.com/semicon/PDF/NJM4558_NJM4559_E.pdf
part A pins: 1, 2 -, 3 +
part B pins: 5 +, 6 -, 7
part C pins: 4 V-, 8 V+

## NJM4559
designator *  value NJM4559  Reference: U
ki_keywords: dual opamp; ki_description: Dual Operational Amplifier, DIP-8/DMP-8/SIP-8/SOP-8/SSOP-8; ki_fp_filters: SOIC*3.9x4.9mm*P1.27mm* DIP*W7.62mm* TO*99* OnSemi*Micro8* TSSOP*3x3mm*P0.65mm* TSSOP*4.4x3mm*P0.65mm* MSOP*3x3mm*P0.65mm* SSOP*3.9x4.9mm*P0.635mm* LFCSP*2x2mm*P0.5mm* *SIP* SOIC*5.3x6.2mm*P1.27mm*; Datasheet: http://www.njr.com/semicon/PDF/NJM4558_NJM4559_E.pdf
part A pins: 1, 2 -, 3 +
part B pins: 5 +, 6 -, 7
part C pins: 4 V-, 8 V+

## NJM4560
designator *  value NJM4560  Reference: U
ki_keywords: dual opamp; ki_description: Dual Operational Amplifier, DIP-8/DMP-8/SIP-8/SOP-8; ki_fp_filters: SOIC*3.9x4.9mm*P1.27mm* DIP*W7.62mm* TO*99* OnSemi*Micro8* TSSOP*3x3mm*P0.65mm* TSSOP*4.4x3mm*P0.65mm* MSOP*3x3mm*P0.65mm* SSOP*3.9x4.9mm*P0.635mm* LFCSP*2x2mm*P0.5mm* *SIP* SOIC*5.3x6.2mm*P1.27mm*; Datasheet: http://www.njr.com/semicon/PDF/NJM4560_E.pdf
part A pins: 1, 2 -, 3 +
part B pins: 5 +, 6 -, 7
part C pins: 4 V-, 8 V+

## NJM4580
designator *  value NJM4580  Reference: U
ki_keywords: dual opamp; ki_description: Dual Operational Amplifier, DIP-8/DMP-8/SIP-8/MSOP-8/SOP-8/SSOP-8; ki_fp_filters: SOIC*3.9x4.9mm*P1.27mm* DIP*W7.62mm* TO*99* OnSemi*Micro8* TSSOP*3x3mm*P0.65mm* TSSOP*4.4x3mm*P0.65mm* MSOP*3x3mm*P0.65mm* SSOP*3.9x4.9mm*P0.635mm* LFCSP*2x2mm*P0.5mm* *SIP* SOIC*5.3x6.2mm*P1.27mm*; Datasheet: http://www.njr.com/semicon/PDF/NJM4580_E.pdf
part A pins: 1, 2 -, 3 +
part B pins: 5 +, 6 -, 7
part C pins: 4 V-, 8 V+

## NJM5532
designator *  value NJM5532  Reference: U
ki_keywords: dual opamp; ki_description: Dual Low-Noise Operational Amplifier, DIP-8/DMP-8/SIP-8; ki_fp_filters: SOIC*3.9x4.9mm*P1.27mm* DIP*W7.62mm* TO*99* OnSemi*Micro8* TSSOP*3x3mm*P0.65mm* TSSOP*4.4x3mm*P0.65mm* MSOP*3x3mm*P0.65mm* SSOP*3.9x4.9mm*P0.635mm* LFCSP*2x2mm*P0.5mm* *SIP* SOIC*5.3x6.2mm*P1.27mm*; Datasheet: http://www.njr.com/semicon/PDF/NJM5532_E.pdf
part A pins: 1, 2 -, 3 +
part B pins: 5 +, 6 -, 7
part C pins: 4 V-, 8 V+

## OP07
designator *  value OP07  Reference: U
ki_keywords: single opamp; ki_description: Single Ultra-Low Offset Voltage Operational Amplifier, DIP-8/SOIC-8; ki_fp_filters: DIP*W7.62mm* SOIC*3.9x4.9mm*P1.27mm* TO*99*; Datasheet: https://www.analog.com/media/en/technical-documentation/data-sheets/OP07.pdf
pins: 1 VOS, 2 -, 3 +, 4 V-, 5 NC hidden, 6, 7 V+, 8 VOS

## OP77
designator *  value OP77  Reference: U
ki_keywords: single opamp; ki_description: Next Generation OP07 Ultralow Offset Voltage Operational Amplifier, DIP-8/TO-99-8; ki_fp_filters: DIP*W7.62mm* SOIC*3.9x4.9mm*P1.27mm* TO*99*; Datasheet: https://www.analog.com/media/en/technical-documentation/data-sheets/OP77.pdf
pins: 1 VOS, 2 -, 3 +, 4 V-, 5 NC hidden, 6, 7 V+, 8 VOS

## OP179GRT
designator *  value OP179GRT  Reference: U
ki_keywords: single opamp; ki_description: Single Rail-to-Rail High Output Current Operational Amplifiers, SOT-23-5; ki_fp_filters: SOT?23*; Footprint: Package_TO_SOT_SMD:SOT-23-5; Datasheet: https://www.analog.com/media/en/technical-documentation/data-sheets/OP179_279.pdf
pins: 1, 2 V+, 3 +, 4 -, 5 V-

## OP179GS
designator *  value OP179GS  Reference: U
ki_keywords: single opamp; ki_description: Single Rail-to-Rail High Output Current Operational Amplifiers, SOIC-8; ki_fp_filters: SOIC*3.9x4.9mm*P1.27mm*; Footprint: Package_SO:SOIC-8_3.9x4.9mm_P1.27mm; Datasheet: https://www.analog.com/media/en/technical-documentation/data-sheets/OP179_279.pdf
pins: 1 NC hidden, 2 -, 3 +, 4 V-, 5 NC hidden, 6, 7 V+, 8 NC hidden

## OP249
designator *  value OP249  Reference: U
ki_keywords: dual opamp; ki_description: Precision JFET, High Speed, Dual Operational Amplifier, DIP-8; ki_fp_filters: SOIC*3.9x4.9mm*P1.27mm* DIP*W7.62mm* TO*99* OnSemi*Micro8* TSSOP*3x3mm*P0.65mm* TSSOP*4.4x3mm*P0.65mm* MSOP*3x3mm*P0.65mm* SSOP*3.9x4.9mm*P0.635mm* LFCSP*2x2mm*P0.5mm* *SIP* SOIC*5.3x6.2mm*P1.27mm*; Datasheet: https://www.analog.com/media/en/technical-documentation/data-sheets/OP249.pdf
part A pins: 1, 2 -, 3 +
part B pins: 5 +, 6 -, 7
part C pins: 4 V-, 8 V+

## OP249GS
designator *  value OP249GS  Reference: U
ki_keywords: dual opamp; ki_description: Precision JFET, High Speed, Dual Operational Amplifier, SOIC-8; ki_fp_filters: SOIC*3.9x4.9mm*P1.27mm*; Footprint: Package_SO:SOIC-8_3.9x4.9mm_P1.27mm; Datasheet: https://www.analog.com/media/en/technical-documentation/data-sheets/OP249.pdf
part A pins: 1 +, 7, 8 -
part B pins: 3 +, 4 -, 5
part C pins: 2 V-, 6 V+

## OP275
designator *  value OP275  Reference: U
ki_keywords: dual opamp; ki_description: Dual Bipolar/JFET, Audio Operational Amplifier, DIP-8/SOIC-8; ki_fp_filters: SOIC*3.9x4.9mm*P1.27mm* DIP*W7.62mm* TO*99* OnSemi*Micro8* TSSOP*3x3mm*P0.65mm* TSSOP*4.4x3mm*P0.65mm* MSOP*3x3mm*P0.65mm* SSOP*3.9x4.9mm*P0.635mm* LFCSP*2x2mm*P0.5mm* *SIP* SOIC*5.3x6.2mm*P1.27mm*; Datasheet: https://www.analog.com/media/en/technical-documentation/data-sheets/OP275.pdf
part A pins: 1, 2 -, 3 +
part B pins: 5 +, 6 -, 7
part C pins: 4 V-, 8 V+

## OP279
designator *  value OP279  Reference: U
ki_keywords: dual opamp; ki_description: Dual Rail-to-Rail High Output Current Operational Amplifiers, SOIC-8/TSSOP-8; ki_fp_filters: SOIC*3.9x4.9mm*P1.27mm* TSSOP*4.4x3mm*P0.65mm*; Datasheet: https://www.analog.com/media/en/technical-documentation/data-sheets/OP179_279.pdf
part A pins: 1, 2 -, 3 +
part B pins: 5 +, 6 -, 7
part C pins: 4 V-, 8 V+

## OP1177AR
designator *  value OP1177AR  Reference: U
ki_keywords: single operational amplifier; ki_description: Precision Low Noise, Low Input Bias Current Operational Amplifier, SOIC-8; ki_fp_filters: SOIC*3.9x4.9mm*P1.27mm*; Footprint: Package_SO:SOIC-8_3.9x4.9mm_P1.27mm; Datasheet: https://www.analog.com/media/en/technical-documentation/data-sheets/OP1177_2177_4177.pdf
pins: 1 NC hidden, 2 -, 3 +, 4 V-, 5 NC hidden, 6, 7 V+, 8 NC hidden

## OP1177ARM
designator *  value OP1177ARM  Reference: U
ki_keywords: single operational amplifier; ki_description: Precision Low Noise, Low Input Bias Current Operational Amplifier, MSOP-8; ki_fp_filters: MSOP*3x3mm*P0.65mm*; Footprint: Package_SO:MSOP-8_3x3mm_P0.65mm; Datasheet: https://www.analog.com/media/en/technical-documentation/data-sheets/OP1177_2177_4177.pdf
pins: 1 NC hidden, 2 -, 3 +, 4 V-, 5 NC hidden, 6, 7 V+, 8 NC hidden

## OPA134
designator *  value OPA134  Reference: U
ki_keywords: single opamp; ki_description: Single SoundPlus High Performance Audio Operational Amplifiers, DIP-8/SOIC-8; ki_fp_filters: DIP*W7.62mm* SOIC*3.9x4.9mm*P1.27mm* TO*99*; Datasheet: http://www.ti.com/lit/ds/symlink/opa134.pdf
pins: 1 VOS, 2 -, 3 +, 4 V-, 5 NC hidden, 6, 7 V+, 8 VOS

## OPA188xxD
designator *  value OPA188xxD  Reference: U
ki_keywords: single opamp zero-drift; ki_description: Precision, Low-Noise, Rail-to-Rail Output, 36-V, Zero-Drift Operational Amplifier, SOIC-8; ki_fp_filters: SOIC*3.9x4.9mm*P1.27mm*; Footprint: Package_SO:SOIC-8_3.9x4.9mm_P1.27mm; Datasheet: http://www.ti.com/lit/ds/symlink/opa188.pdf
pins: 1 NC hidden, 2 -, 3 +, 4 V-, 5 NC hidden, 6, 7 V+, 8 NC hidden

## OPA188xxDBV
designator *  value OPA188xxDBV  Reference: U
ki_keywords: single opamp zero-drift; ki_description: Zero-Drift, Precision, Low-Noise, Rail-to-Rail Output, 36-V Operational Amplifier, TSOT-23-5; ki_fp_filters: TSOT*23*; Footprint: Package_TO_SOT_SMD:TSOT-23-5; Datasheet: http://www.ti.com/lit/ds/symlink/opa188.pdf
pins: 1, 2 V-, 3 +, 4 -, 5 V+

## OPA196xD
designator *  value OPA196xD  Reference: U
ki_keywords: single opamp; ki_description: Sing, Low-Power, Low Offset Voltage, Rail-to-Rail Operational Amplifier, SOIC-8; ki_fp_filters: SOIC*3.9x4.9mm*P1.27mm*; Footprint: Package_SO:SOIC-8_3.9x4.9mm_P1.27mm; Datasheet: http://www.ti.com/lit/ds/symlink/opa4196.pdf
pins: 1 NC hidden, 2 -, 3 +, 4 V-, 5 NC hidden, 6, 7 V+, 8 NC hidden

## OPA196xDBV
designator *  value OPA196xDBV  Reference: U
ki_keywords: single opamp; ki_description: Single, Low-Power, Low Offset Voltage, Rail-to-Rail Operational Amplifier, SOT-23-5; ki_fp_filters: SOT?23*; Footprint: Package_TO_SOT_SMD:SOT-23-5; Datasheet: http://www.ti.com/lit/ds/symlink/opa4196.pdf
pins: 1, 2 V-, 3 +, 4 -, 5 V+

## OPA196xDGK
designator *  value OPA196xDGK  Reference: U
ki_keywords: single opamp rtor; ki_description: Single, Low-Power, Low Offset Voltage, Rail-to-Rail Operational Amplifier, VSSOP-8; ki_fp_filters: VSSOP*3.0x3.0mm*P0.65mm*; Footprint: Package_SO:VSSOP-8_3.0x3.0mm_P0.65mm; Datasheet: http://www.ti.com/lit/ds/symlink/opa4196.pdf
pins: 1 NC hidden, 2 -, 3 +, 4 V-, 5 NC hidden, 6, 7 V+, 8 NC hidden

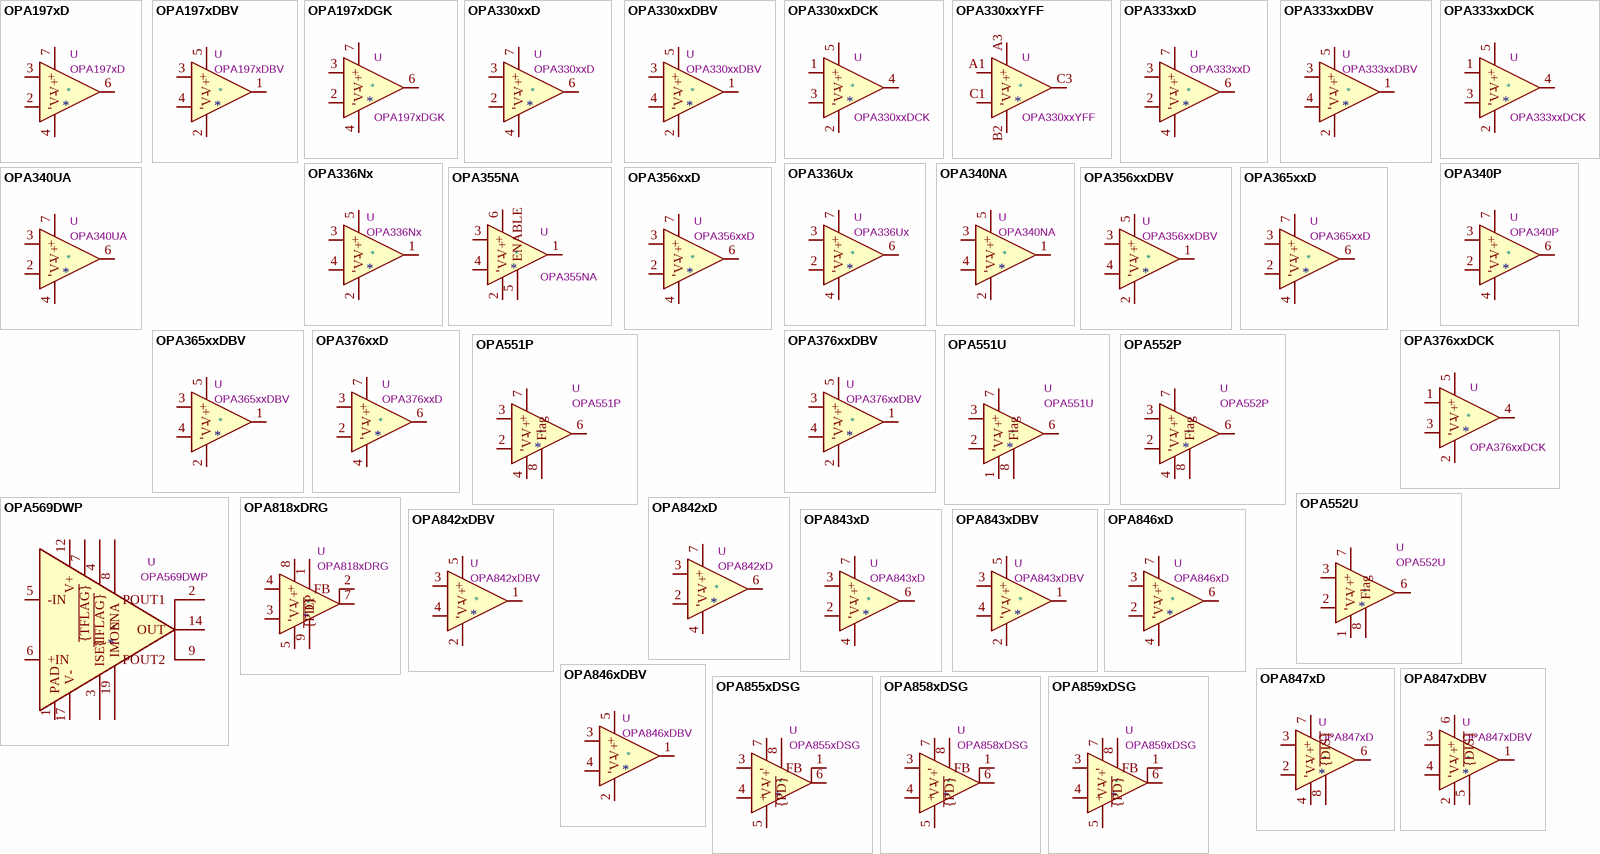
[diagram p12: symbols OPA197xD to OPA859xDSG]

## OPA197xD
designator *  value OPA197xD  Reference: U
ki_keywords: single opamp rtor; ki_description: Single 36V, Precision, Rail-to-Rail Input/Output, Low Offset Voltage, Operational Amplifier, SOIC-8; ki_fp_filters: SOIC*3.9x4.9mm*P1.27mm*; Footprint: Package_SO:SOIC-8_3.9x4.9mm_P1.27mm; Datasheet: http://www.ti.com/lit/ds/symlink/opa197.pdf
pins: 1 NC hidden, 2 -, 3 +, 4 V-, 5 NC hidden, 6, 7 V+, 8 NC hidden

## OPA197xDBV
designator *  value OPA197xDBV  Reference: U
ki_keywords: single opamp rtor; ki_description: Single 36V, Precision, Rail-to-Rail Input/Output, Low Offset Voltage, Operational Amplifier, SOT-23; ki_fp_filters: SOT?23*; Footprint: Package_TO_SOT_SMD:SOT-23-5; Datasheet: http://www.ti.com/lit/ds/symlink/opa197.pdf
pins: 1, 2 V-, 3 +, 4 -, 5 V+

## OPA197xDGK
designator *  value OPA197xDGK  Reference: U
ki_keywords: single opamp rtor; ki_description: Single 36V, Precision, Rail-to-Rail Input/Output, Low Offset Voltage, Operational Amplifier, VSSOP-8; ki_fp_filters: VSSOP*3.0x3.0mm*P0.65mm*; Footprint: Package_SO:VSSOP-8_3.0x3.0mm_P0.65mm; Datasheet: http://www.ti.com/lit/ds/symlink/opa197.pdf
pins: 1 NC hidden, 2 -, 3 +, 4 V-, 5 NC hidden, 6, 7 V+, 8 NC hidden

## OPA330xxD
designator *  value OPA330xxD  Reference: U
ki_keywords: single opamp; ki_description: 50μV V OS, 0.25μV/°C, 35μA CMOS OPERATIONAL AMPLIFIERS, Zerø-Drift Series, SOIC; ki_fp_filters: SOIC*3.9x4.9mm*P1.27mm*; Footprint: Package_SO:SOIC-8_3.9x4.9mm_P1.27mm; Datasheet: http://www.ti.com/lit/ds/symlink/opa330.pdf
pins: 1 NC hidden, 2 -, 3 +, 4 V-, 5 NC hidden, 6, 7 V+, 8 NC hidden

## OPA330xxDBV
designator *  value OPA330xxDBV  Reference: U
ki_keywords: single opamp; ki_description: 50μV V OS, 0.25μV/°C, 35μA CMOS OPERATIONAL AMPLIFIERS, Zerø-Drift Series, SOT; ki_fp_filters: SOT?23*; Footprint: Package_TO_SOT_SMD:SOT-23-5; Datasheet: http://www.ti.com/lit/ds/symlink/opa330.pdf
pins: 1, 2 V-, 3 +, 4 -, 5 V+

## OPA330xxDCK
designator *  value OPA330xxDCK  Reference: U
ki_keywords: single opamp; ki_description: 50μV V OS, 0.25μV/°C, 35μA CMOS OPERATIONAL AMPLIFIERS, Zerø-Drift Series, SC70; ki_fp_filters: SOT?23* *SC*70*; Datasheet: http://www.ti.com/lit/ds/symlink/opa330.pdf
pins: 1 +, 2 V-, 3 -, 4, 5 V+

## OPA330xxYFF
designator *  value OPA330xxYFF  Reference: U
ki_keywords: single opamp; ki_description: 50μV V OS, 0.25μV/°C, 35μA CMOS OPERATIONAL AMPLIFIERS, Zerø-Drift Series, DSBGA; ki_fp_filters: Texas*DSBGA*0.822x1.116mm*2x1x2*P0.4mm*; Footprint: Package_BGA:Texas_DSBGA-5_0.822x1.116mm_Layout2x1x2_P0.4mm; Datasheet: http://www.ti.com/lit/ds/symlink/opa330.pdf
pins: A1 +, A3 V+, B2 V-, C1 -, C3

## OPA333xxD
designator *  value OPA333xxD  Reference: U
ki_keywords: single opamp; ki_description: Single 1.8V, microPower, CMOS Operational Amplifiers, Zero-Drift Series, SOIC-8; ki_fp_filters: SOIC*3.9x4.9mm*P1.27mm*; Footprint: Package_SO:SOIC-8_3.9x4.9mm_P1.27mm; Datasheet: http://www.ti.com/lit/ds/symlink/opa333.pdf
pins: 1 NC hidden, 2 -, 3 +, 4 V-, 5 NC hidden, 6, 7 V+, 8 NC hidden

## OPA333xxDBV
designator *  value OPA333xxDBV  Reference: U
ki_keywords: single opamp; ki_description: Single 1.8V, microPower, CMOS Operational Amplifiers, Zero-Drift Series, SOT-23-5; ki_fp_filters: SOT?23*; Footprint: Package_TO_SOT_SMD:SOT-23-5; Datasheet: http://www.ti.com/lit/ds/symlink/opa333.pdf
pins: 1, 2 V-, 3 +, 4 -, 5 V+

## OPA333xxDCK
designator *  value OPA333xxDCK  Reference: U
ki_keywords: single opamp; ki_description: Single 1.8V, microPower, CMOS Operational Amplifiers, Zero-Drift Series, SC-70-5; ki_fp_filters: SOT?23* *SC*70*; Datasheet: http://www.ti.com/lit/ds/symlink/opa333.pdf
pins: 1 +, 2 V-, 3 -, 4, 5 V+

## OPA336Nx
designator *  value OPA336Nx  Reference: U
ki_keywords: single opamp rail; ki_description: 100 KHz, microPower CMOS, Op Amps, SOT-23-5; ki_fp_filters: SOT?23*; Footprint: Package_TO_SOT_SMD:SOT-23-5; Datasheet: https://www.ti.com/lit/ds/symlink/opa2336.pdf
pins: 1, 2 V-, 3 +, 4 -, 5 V+

## OPA336Ux
designator *  value OPA336Ux  Reference: U
ki_keywords: single opamp rail; ki_description: 100 KHz, microPower CMOS, Op Amps, SO-8; ki_fp_filters: SO*3.9x4.9mm*P1.27mm*; Footprint: Package_SO:SO-8_3.9x4.9mm_P1.27mm; Datasheet: https://www.ti.com/lit/ds/symlink/opa2336.pdf
pins: 1 NC hidden, 2 -, 3 +, 4 V-, 5 NC hidden, 6, 7 V+, 8 NC hidden

## OPA340NA
designator *  value OPA340NA  Reference: U
ki_keywords: single opamp; ki_description: Single Single-Supply, Rail-to-Rail Operational Amplifier, MicroAmplifier Series, SOT-23-5; ki_fp_filters: SOT?23*; Footprint: Package_TO_SOT_SMD:SOT-23-5; Datasheet: http://www.ti.com/lit/ds/symlink/opa340.pdf
pins: 1, 2 V-, 3 +, 4 -, 5 V+

## OPA340P
designator *  value OPA340P  Reference: U
ki_keywords: single opamp; ki_description: Single Single-Supply, Rail-to-Rail Operational Amplifier, MicroAmplifier Series, DIP-8; ki_fp_filters: DIP*W7.62mm*; Footprint: Package_DIP:DIP-8_W7.62mm; Datasheet: http://www.ti.com/lit/ds/symlink/opa340.pdf
pins: 1 NC hidden, 2 -, 3 +, 4 V-, 5 NC hidden, 6, 7 V+, 8 NC hidden

## OPA340UA
designator *  value OPA340UA  Reference: U
ki_keywords: single opamp; ki_description: Single Single-Supply, Rail-to-Rail Operational Amplifier, MicroAmplifier Series, SOIC-8; ki_fp_filters: SOIC*3.9x4.9mm*P1.27mm*; Footprint: Package_SO:SOIC-8_3.9x4.9mm_P1.27mm; Datasheet: http://www.ti.com/lit/ds/symlink/opa340.pdf
pins: 1 NC hidden, 2 -, 3 +, 4 V-, 5 NC hidden, 6, 7 V+, 8 NC hidden

## OPA355NA
designator *  value OPA355NA  Reference: U
ki_keywords: operational amplifier opamp shutdown high-speed; ki_description: 200MHz, CMOS, Operational amplifier, with shutdown, SOT-23-6; ki_fp_filters: SOT?23*; Footprint: Package_TO_SOT_SMD:SOT-23-6; Datasheet: http://www.ti.com/lit/ds/symlink/opa355.pdf
pins: 1, 2 V-, 3 +, 4 -, 5 ENABLE, 6 V+

## OPA356xxD
designator *  value OPA356xxD  Reference: U
ki_keywords: single opamp; ki_description: Single High Speed CMOS Operational Amplifier, SOIC-8; ki_fp_filters: SOIC*3.9x4.9mm*P1.27mm*; Footprint: Package_SO:SOIC-8_3.9x4.9mm_P1.27mm; Datasheet: http://www.ti.com/lit/ds/symlink/opa356.pdf
pins: 1 NC hidden, 2 -, 3 +, 4 V-, 5 NC hidden, 6, 7 V+, 8 NC hidden

## OPA356xxDBV
designator *  value OPA356xxDBV  Reference: U
ki_keywords: single opamp; ki_description: Single High Speed CMOS Operational Amplifier, SOT-23-5; ki_fp_filters: SOT?23*; Footprint: Package_TO_SOT_SMD:SOT-23-5; Datasheet: http://www.ti.com/lit/ds/symlink/opa356.pdf
pins: 1, 2 V-, 3 +, 4 -, 5 V+

## OPA365xxD
designator *  value OPA365xxD  Reference: U
ki_keywords: single opamp; ki_description: 50-MHz, Zero-Crossover, Low-Distortion, High CMRR, RRI/O, Single-Supply, SOIC-8; ki_fp_filters: SOIC*3.9x4.9mm*P1.27mm*; Footprint: Package_SO:SOIC-8_3.9x4.9mm_P1.27mm; Datasheet: http://www.ti.com/lit/ds/symlink/opa365.pdf
pins: 1 NC hidden, 2 -, 3 +, 4 V-, 5 NC hidden, 6, 7 V+, 8 NC hidden

## OPA365xxDBV
designator *  value OPA365xxDBV  Reference: U
ki_keywords: single opamp; ki_description: 50-MHz, Zero-Crossover, Low-Distortion, High CMRR, RRI/O, Single-Supply, SOT-23-5; ki_fp_filters: SOT?23*; Footprint: Package_TO_SOT_SMD:SOT-23-5; Datasheet: https://www.ti.com/lit/ds/symlink/opa365.pdf
pins: 1, 2 V-, 3 +, 4 -, 5 V+